# EAGLE library part STN1110 (library Goodies)
The STN1110 is an OBD to UART interpreter IC designed to provide bi-directional half-duplex communication with the vehicle’s On-Board Diagnostic System (OBD-II). It supports all legislated OBD-II protocols
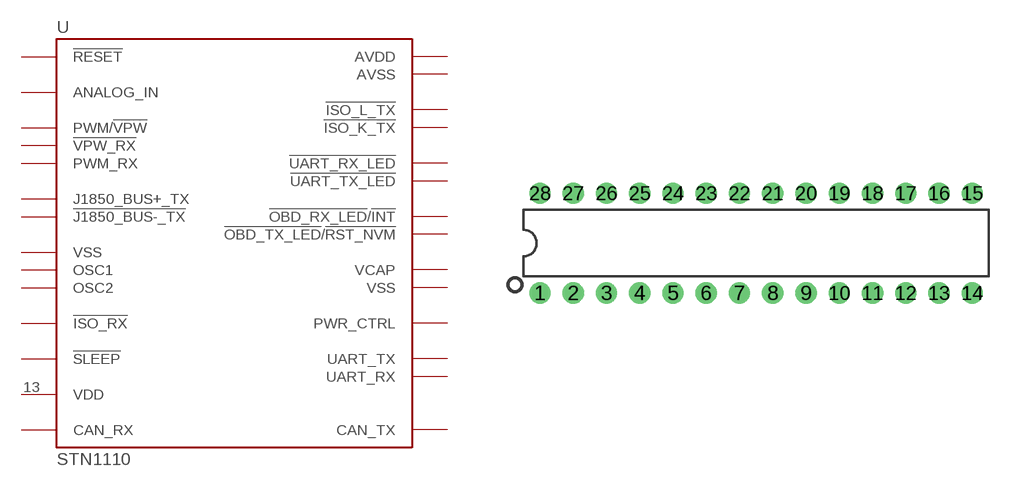
[diagram p0: symbol with the pads of DIP28; footprint DIP28]

Designator prefix U

## STN1110SPDIP28  [DIP28]
1  !RESET  in
2  ANALOG_IN  in
3  PWM/!VPW  out
4  !VPW_RX
5  PWM_RX
6  J1850_BUS+_TX  out
7  !J1850_BUS-_TX  out
8  VSS  pwr
9  OSC1
10  OSC2  out
11  !ISO_RX
12  !SLEEP
13  VDD  pwr
14  CAN_RX
15  CAN_TX  out
16  UART_RX
17  UART_TX  out
18  PWR_CTRL  out
19  VSS  pwr
20  VCAP  pwr
21  !OBD_TX_LED!/!RST_NVM!  out
22  !OBD_RX_LED!/!INT!  out
23  !UART_TX_LED  out
24  !UART_RX_LED  out
25  !ISO_K_TX  out
26  !ISO_L_TX  out
27  AVSS  pwr
28  AVDD  pwr

## Footprint DIP28 (pad centres in mm)
STN1110 in SPDIP-28 package Standard 28-pin DIP package. UNTESTED
drill 0.813 pad 1.626: 1 -16.51,-3.81; 2 -13.97,-3.81; 3 -11.43,-3.81; 4 -8.89,-3.81; 5 -6.35,-3.81; 6 -3.81,-3.81; 7 -1.27,-3.81; 8 1.27,-3.81; 9 3.81,-3.81; 10 6.35,-3.81; 11 8.89,-3.81; 12 11.43,-3.81; 13 13.97,-3.81; 14 16.51,-3.81; 15 16.51,3.81; 16 13.97,3.81; 17 11.43,3.81; 18 8.89,3.81; 19 6.35,3.81; 20 3.81,3.81; 21 1.27,3.81; 22 -1.27,3.81; 23 -3.81,3.81; 24 -6.35,3.81; 25 -8.89,3.81; 26 -11.43,3.81; 27 -13.97,3.81; 28 -16.51,3.81